# Altium schematic symbol library IC. Power supply.SchLib: 26 symbols
Pins are listed as number, name and electrical type; pins without a type are passive.

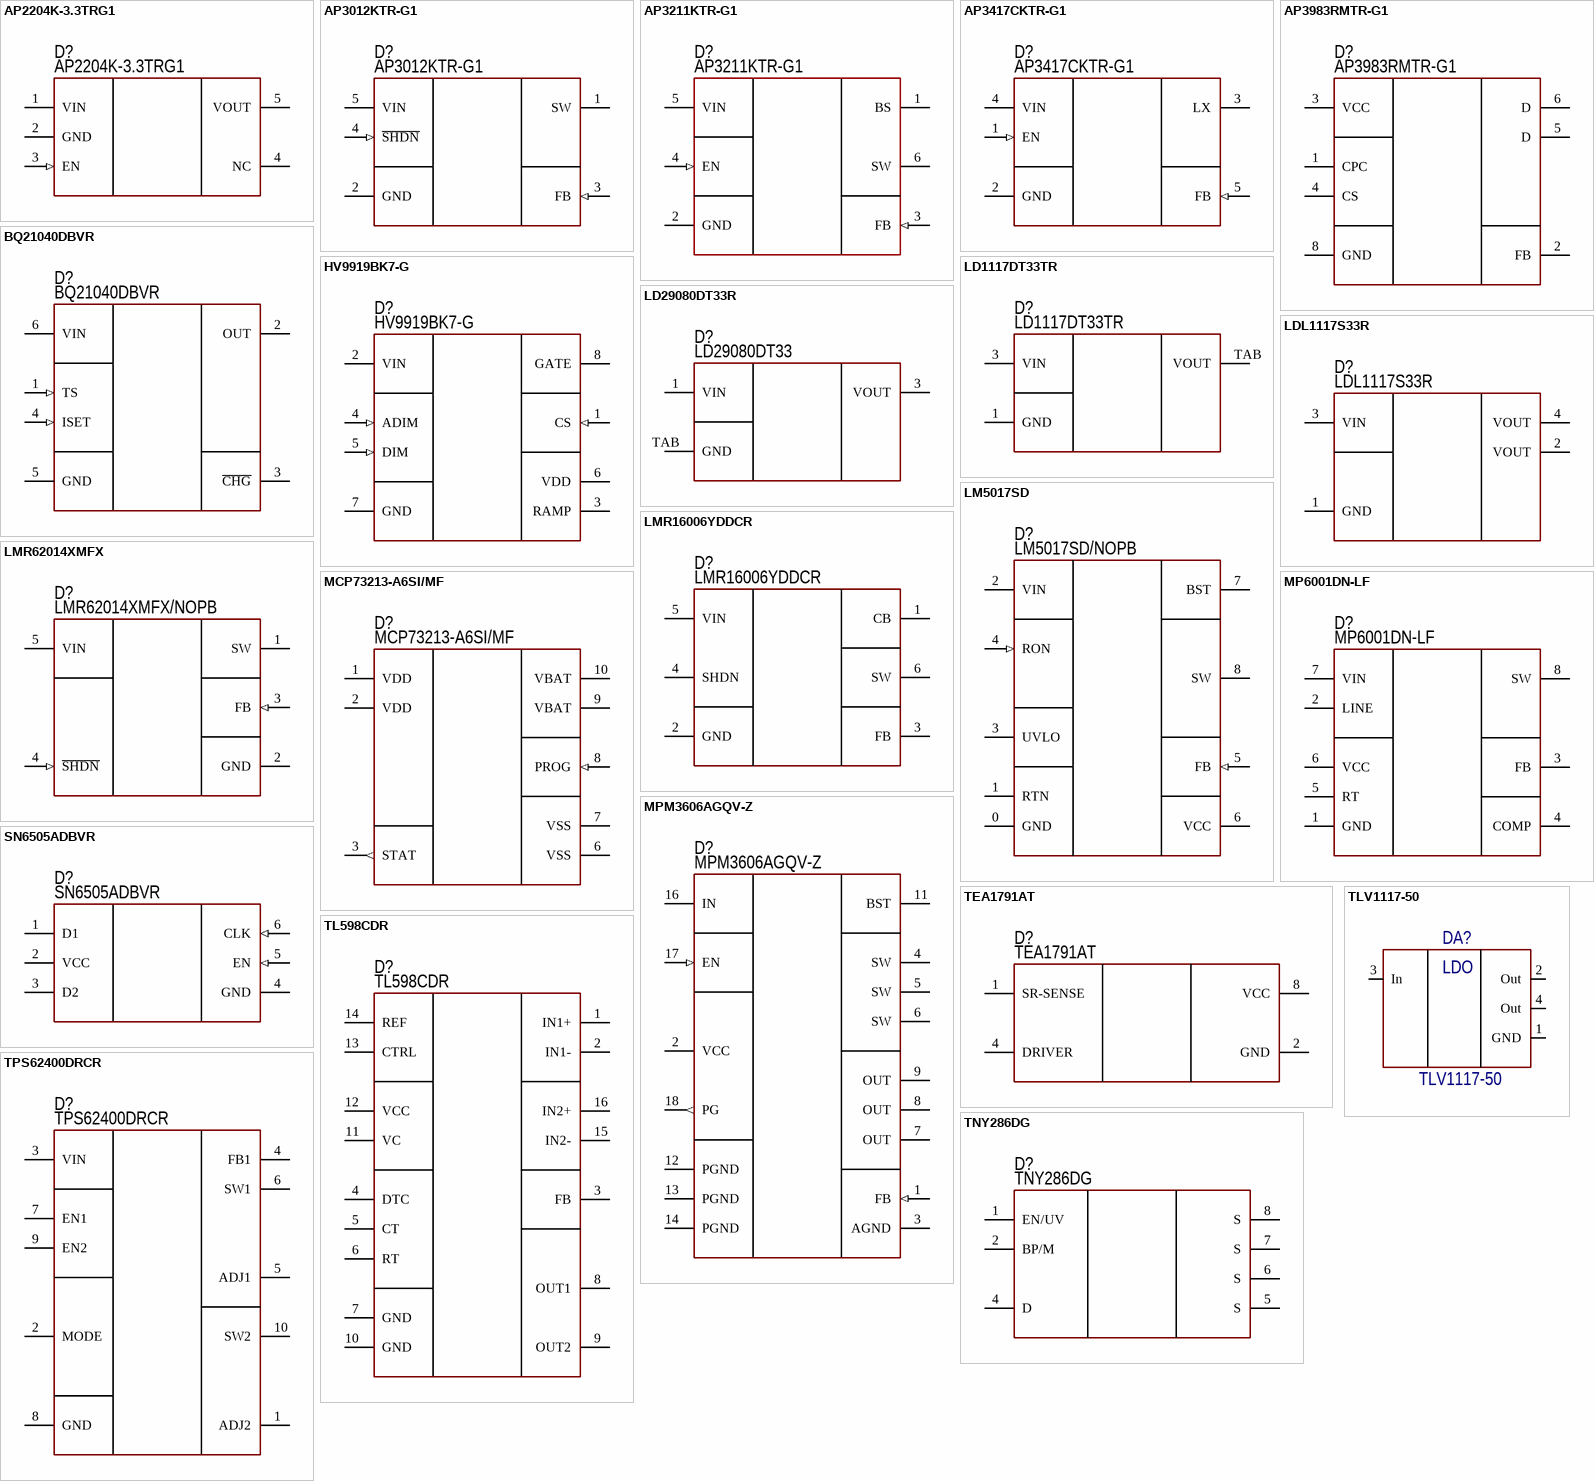
[diagram p0: symbols AP2204K-3.3TRG1 to TPS62400DRCR]

## AP2204K-3.3TRG1
designator D?  PartNumber: AP2204K-3.3TRG1
Linear voltage regulator; Manufacturer: Diodes Incorporated; ValueManufacturerPartNumber: Linear voltage regulator, input 4...24V, 0.5V, output 3.3V, 0.15A, -40...+85°C, SOT23-6; VoltageInput: input 4...24V; MaxDropout: 0.5V; CurrentOutput: 0.15A; VoltageOutput: output 3.3V; HelpURL: https://www.digikey.com/product-detail/en/diodes-incorporated/AP2204K-3.3TRG1/AP2204K-3.3TRG1DICT-ND/4505288; Package: SOT23-6; ComponentType: Linear voltage regulator; Temperature: -40...+85°C
footprint SOT23-5 (pitch 0.95 mm)
pins: 1 VIN, 2 GND, 3 EN (in), 4 NC, 5 VOUT

## AP3012KTR-G1
designator D?  PartNumber: AP3012KTR-G1
Boost converter; Manufacturer: Diodes Incorporated; ValueManufacturerPartNumber: DC/DC boost converter, input 2.6...16V, 1.5MHz, output 3...29V, 0.5A, -40...+85°C, SOT23-5; VoltageInput: input 2.6...16V; Frequency: 1.5MHz; CurrentOutput: 0.5A; VoltageOutput: output 3...29V; HelpURL: https://www.digikey.com/product-detail/en/diodes-incorporated/AP3012KTR-G1/AP3012KTR-G1DICT-ND/4505297; Package: SOT23-5; ComponentType: DC/DC boost converter; Temperature: -40...+85°C
footprint SOT23-5 (pitch 0.95 mm)
pins: 1 SW, 2 GND, 3 FB (in), 4 ~{SHDN} (in), 5 VIN

## AP3211KTR-G1
designator D?  PartNumber: AP3211KTR-G1
Buck converter; Manufacturer: Diodes Incorporated; ValueManufacturerPartNumber: DC/DC buck converter, input 4.5...18V, 1.4MHz, output 0.81...15V, 1.5A, -40...+85°C, SOT23-6; VoltageInput: input 4.5...18V; Frequency: 1.4MHz; CurrentOutput: 1.5A; VoltageOutput: output 0.81...15V; HelpURL: https://www.digikey.com/product-detail/en/diodes-incorporated/AP3211KTR-G1/AP3211KTR-G1DICT-ND/4505305; Package: SOT23-6; ComponentType: DC/DC buck converter; Temperature: -40...+85°C
footprint SOT23-6 (pitch 0.95 mm)
pins: 1 BS, 2 GND, 3 FB (in), 4 EN (in), 5 VIN, 6 SW

## AP3417CKTR-G1
designator D?  PartNumber: AP3417CKTR-G1
Buck converter; Manufacturer: Diodes Incorporated; ValueManufacturerPartNumber: DC/DC buck converter, input 2.5...5.5V, 1.5MHz, output 0.6...4.95V, 1A, -40...+85°C, SOT23-5; VoltageInput: input 2.5...5.5V; Frequency: 1.5MHz; CurrentOutput: 1A; VoltageOutput: output 0.6...4.95V; HelpURL: https://www.digikey.com/product-detail/en/diodes-incorporated/AP3417CKTR-G1/AP3417CKTR-G1DICT-ND/4505308; Package: SOT23-5; ComponentType: DC/DC buck converter; Temperature: -40...+85°C
footprint SOT23-6 (pitch 0.95 mm)
pins: 1 EN (in), 2 GND, 3 LX, 4 VIN, 5 FB (in)

## AP3983RMTR-G1
designator D?  PartNumber: AP3983RMTR-G1
AC/DC converter; Manufacturer: Diodes Incorporated; ValueManufacturerPartNumber: AC/DC flyback converter, 700V, 80kHz, 10W, supply 6.8...25V, -40...+85°C, 7-SOIC; MaxInternalVoltage: 700V; Frequency: 80kHz; PowerOutput: 10W; VoltageSupply: supply 6.8...25V; HelpURL: https://www.digikey.com/product-detail/en/diodes-incorporated/AP3983RMTR-G1/AP3983RMTR-G1DICT-ND/6181714; Package: 7-SOIC; ComponentType: AC/DC flyback converter; Temperature: -40...+85°C
footprint 7-SOIC (pitch 1.27 mm)
pins: 1 CPC, 2 FB, 3 VCC, 4 CS, 5 D, 6 D, 8 GND

## BQ21040DBVR
designator D?  PartNumber: BQ21040DBVR
Charger; Manufacturer: Texas Instruments; ValueManufacturerPartNumber: Charger li-ion battery, input 4.5...6.25V, output 4.2V, 0.8A, 0...+125°C, SOT23-6; VoltageInput: input 4.5...6.25V; CurrentOutput: 0.8A; VoltageOutput: output 4.2V; HelpURL: https://www.digikey.com/product-detail/en/texas-instruments/BQ21040DBVR/296-47315-1-ND/7688325; Package: SOT23-6; ComponentType: Charger li-ion battery; Temperature: 0...+125°C
footprint SOT23-6 (pitch 0.95 mm)
pins: 1 TS (in), 2 OUT, 3 ~{CHG}, 4 ISET (in), 5 GND, 6 VIN

## HV9919BK7-G
designator D?  PartNumber: HV9919BK7-G
PWM led controller; Manufacturer: Microchip Technology; ValueManufacturerPartNumber: PWM led controller, input 4.5...40V, 2MHz, External switch, Step-Down, -40...+125°C, 8-DFN; VoltageInput: input 4.5...40V; Frequency: 2MHz; TypeConverter: Step-Down; OutputType: External switch; HelpURL: https://www.digikey.com/product-detail/en/microchip-technology/HV9919BK7-G/HV9919BK7-GCT-ND/8538004; Package: 8-DFN; ComponentType: PWM led controller; Temperature: -40...+125°C
footprint 8-DFN (3x3, 0.65 mm) (3x3 mm, pitch 0.65 mm, power pad)
pins: 1 CS (in), 2 VIN, 3 RAMP, 4 ADIM (in), 5 DIM (in), 6 VDD, 7 GND, 8 GATE

## LD1117DT33TR
designator D?  PartNumber: LD1117DT33TR
Linear voltage regulator; Manufacturer: STMicroelectronics; ValueManufacturerPartNumber: Linear voltage regulator, input 4.75...10V, 1.2V, output 3.3V, 1.2A, -40...+85°C, DPAK(TO-252); VoltageInput: input 4.75...10V; MaxDropout: 1.2V; CurrentOutput: 1.2A; VoltageOutput: output 3.3V; HelpURL: https://www.chipdip.ru/product/ld1117dt33; Package: DPAK(TO-252); ComponentType: Linear voltage regulator; Temperature: -40...+85°C
footprint DPAK(LDO) (DPAK for LDO)
pins: 1 GND (power), 3 VIN (power), TAB VOUT (power)

## LD29080DT33R
designator D?  PartNumber: LD29080DT33
Linear voltage regulator; Manufacturer: STMicroelectronics; ValueManufacturerPartNumber: Linear voltage regulator, input 4.3...8.8V, 0.4V, output 3.3V, 0.8A, -40...+85°C, DPAK(TO-252); VoltageInput: input 4.3...8.8V; MaxDropout: 0.4V; CurrentOutput: 0.8A; VoltageOutput: output 3.3V; HelpURL: https://www.electronshik.ru/item/ST/LD29080DT33R; Package: DPAK(TO-252); ComponentType: Linear voltage regulator; Temperature: -40...+85°C
footprint DPAK(LDO) (DPAK for LDO)
pins: 1 VIN (power), 3 VOUT (power), TAB GND (power)

## LDL1117S33R
designator D?  PartNumber: LDL1117S33R
Linear voltage regulator; Manufacturer: STMicroelectronics; ValueManufacturerPartNumber: Linear voltage regulator, input 3.9...18V, 0.6V, output 3.3V, 1.2A, -40...+85°C, SOT223; VoltageInput: input 3.9...18V; MaxDropout: 0.6V; CurrentOutput: 1.2A; VoltageOutput: output 3.3V; HelpURL: https://www.digikey.com/product-detail/en/stmicroelectronics/LDL1117S33R/497-17239-1-ND/7102079; Package: SOT223; ComponentType: Linear voltage regulator; Temperature: -40...+85°C
footprint SOT223 (SOT223, 4-Leads, Body 6,50x7,00mm (avg), Pitch 2,30mm, IPC Medium Density)
pins: 1 GND (power), 2 VOUT (power), 3 VIN (power), 4 VOUT (power)

## LM5017SD
designator D?  PartNumber: LM5017SD/NOPB
Buck converter; Manufacturer: Texas Instruments; ValueManufacturerPartNumber: DC/DC buck converter, input 7.5...100V, 1MHz, output 1.225...90V, 0.6A, -40...+125°C, 8-WSON; VoltageInput: input 7.5...100V; Frequency: 1MHz; CurrentOutput: 0.6A; VoltageOutput: output 1.225...90V; HelpURL: https://www.digikey.com/product-detail/en/texas-instruments/LM5017SD-NOPB/LM5017SD-NOPBCT-ND/3137455; Package: 8-WSON; ComponentType: DC/DC buck converter; Temperature: -40...+125°C
footprint 8-WSON (4x4) (4x4 mm, pitch 0.8 mm, power pad)
pins: 0 GND, 1 RTN, 2 VIN, 3 UVLO, 4 RON (in), 5 FB (in), 6 VCC, 7 BST, 8 SW

## LMR16006YDDCR
designator D?  PartNumber: LMR16006YDDCR
Buck converter; Manufacturer: Texas Instruments; ValueManufacturerPartNumber: DC/DC buck converter, input 4...60V, 2.1MHz, output 0.765...55V, 0.6A, -40...+125°C, SOT23-6; VoltageInput: input 4...60V; Frequency: 2.1MHz; CurrentOutput: 0.6A; VoltageOutput: output 0.765...55V; HelpURL: https://www.digikey.com/product-detail/en/texas-instruments/LMR16006YDDCR/296-40294-1-ND/5178171; Package: SOT23-6; ComponentType: DC/DC buck converter; Temperature: -40...+125°C
footprint SOT23-6 (pitch 0.95 mm)
pins: 1 CB (power), 2 GND (power), 3 FB (power), 4 SHDN (power), 5 VIN (power), 6 SW (power)

## LMR62014XMFX
designator D?  PartNumber: LMR62014XMFX/NOPB
Boost converter; Manufacturer: Texas Instruments; ValueManufacturerPartNumber: DC/DC boost converter, input 2.7...14V, 1.5MHz, output 3...20V, 2A, -40...+125°C, SOT23-5; VoltageInput: input 2.7...14V; Frequency: 1.5MHz; CurrentOutput: 2A; VoltageOutput: output 3...20V; HelpURL: https://www.digikey.com/product-detail/en/diodes-incorporated/AP3012KTR-G1/AP3012KTR-G1DICT-ND/4505297; Package: SOT23-5; ComponentType: DC/DC boost converter; Temperature: -40...+125°C
footprint SOT23-5 (pitch 0.95 mm)
pins: 1 SW, 2 GND, 3 FB (in), 4 ~{SHDN} (in), 5 VIN

## MCP73213-A6SI/MF
designator D?  PartNumber: MCP73213-A6SI/MF
Charger; Manufacturer: Microchip Technology; ValueManufacturerPartNumber: Charger  2S li-ion battery, input 8.8...13V, output 8.4V, 1.1A, -40...+85°C, 10-DFN; VoltageInput: input 8.8...13V; CurrentOutput: 1.1A; VoltageOutput: output 8.4V; HelpURL: https://www.digikey.com/products/en?keywords=MCP73213-A6SI%2FMF; Package: 10-DFN; ComponentType: Charger  2S li-ion battery; Temperature: -40...+85°C
footprint 10-DFN (3x3 mm, pitch 0.5 mm, power pad)
pins: 1 VDD, 2 VDD, 3 STAT (out), 6 VSS, 7 VSS, 8 PROG (in), 9 VBAT, 10 VBAT

## MP6001DN-LF
designator D?  PartNumber: MP6001DN-LF
Boost converter; Manufacturer: Monolithic; ValueManufacturerPartNumber: DC/DC boost converter, input 10...100V, 500kHz, output 12...150V, 2A, -40...+85°C, 8-SOIC; VoltageInput: input 10...100V; Frequency: 500kHz; CurrentOutput: 2A; VoltageOutput: output 12...150V; HelpURL: https://www.digikey.com/product-detail/en/monolithic-power-systems-inc/MP6001DN-LF-Z/1589-1700-1-ND/9433466; Package: 8-SOIC; ComponentType: DC/DC boost converter; Temperature: -40...+85°C
footprint 8-SOIC-PAD (pitch 1.27 mm, power pad)
pins: 1 GND (power), 2 LINE (power), 3 FB (power), 4 COMP (power), 5 RT (power), 6 VCC (power), 7 VIN (power), 8 SW (power)

## MPM3606AGQV-Z
designator D?  PartNumber: MPM3606AGQV-Z
Buck converter; Manufacturer: Monolithic; ValueManufacturerPartNumber: DC/DC buck converter, input 4.5...21V, 20MHz, output 4.5...21V, 0.6A, -40...+125°C, 20-QFN; VoltageInput: input 4.5...21V; Frequency: 20MHz; CurrentOutput: 0.6A; VoltageOutput: output 4.5...21V; HelpURL: https://www.digikey.com/product-detail/en/monolithic-power-systems-inc/MPM3606AGQV-Z/1589-1760-1-ND/9433526; Package: 20-QFN; ComponentType: DC/DC buck converter; Temperature: -40...+125°C
footprint IC: MPM3606A
pins: 1 FB (in), 2 VCC, 3 AGND, 4 SW, 5 SW, 6 SW, 7 OUT, 8 OUT, 9 OUT, 11 BST, 12 PGND, 13 PGND, 14 PGND, 16 IN, 17 EN (in), 18 PG (out)

## SN6505ADBVR
designator D?  PartNumber: SN6505ADBVR
Push-pull converter; Manufacturer: Texas Instruments; ValueManufacturerPartNumber: DC/DC push-pull converter, input 2.25...5.5V, 160kHz, External transformer, 1.7A, -55...+125°C, SOT23-6; VoltageInput: input 2.25...5.5V; Frequency: 160kHz; CurrentOutput: 1.7A; VoltageOutput: External transformer; HelpURL: https://www.digikey.com/product-detail/en/texas-instruments/SN6505ADBVR/296-48949-1-ND/8635012; Package: SOT23-6; ComponentType: DC/DC push-pull converter; Temperature: -55...+125°C
footprint SOT23-6 (pitch 0.95 mm)
pins: 1 D1 (power), 2 VCC (power), 3 D2 (power), 4 GND (power), 5 EN (in), 6 CLK (in)

## TEA1791AT
designator D?  PartNumber: TEA1791AT
Synchronous rectification; Manufacturer: NXP; ValueManufacturerPartNumber: Synchronous rectification, input 8.5...38V, 1MHz, ExternalSwitch, Controller, -40...+150°C, 8-SOIC; VoltageInput: input 8.5...38V; Frequency: 1MHz; TypeConverter: Controller; OutputType: ExternalSwitch; HelpURL: https://www.digikey.com/product-detail/en/nxp-usa-inc/TEA1791AT-N1118/568-5964-1-ND/2531251; Package: 8-SOIC; ComponentType: Synchronous rectification; Temperature: -40...+150°C
footprint 8-DFN (3x3, 0.65 mm) (3x3 mm, pitch 0.65 mm, power pad)
pins: 1 SR-SENSE, 2 GND, 4 DRIVER, 8 VCC

## TL598CDR
designator D?  PartNumber: TL598CDR
PWM controller; Manufacturer: Texas Instruments; ValueManufacturerPartNumber: PWM controller, supply 7...40V, 100kHz, External switch, 0...+70°C, 16-SOIC; VoltageInput: supply 7...40V; Frequency: 100kHz; OutputType: External switch; HelpURL: https://www.digikey.com/product-detail/en/texas-instruments/TL598CDR/296-36983-1-ND/4428929; Package: 16-SOIC; ComponentType: PWM controller; Temperature: 0...+70°C
footprint 16-SO (pitch 1.27 mm)
pins: 1 IN1+, 2 IN1-, 3 FB, 4 DTC, 5 CT, 6 RT, 7 GND, 8 OUT1, 9 OUT2, 10 GND, 11 VC, 12 VCC, 13 CTRL, 14 REF, 15 IN2-, 16 IN2+

## TLV1117-50
designator DA?
Микросхема; Manufacturer: Texas Instruments; Footprint: SOT-223; HelpURL: http://www.ti.com/lit/ds/symlink/tlv1117.pdf; Publisher: TEN; Published: 01.2018; Part_Number: TLV1117-50
footprint SOT223 (SOT223, 4-Leads, Body 6,50x7,00mm (avg), Pitch 2,30mm, IPC Medium Density)
pins: 1 GND, 2 Out, 3 In, 4 Out
text: LDO

## TNY286DG
designator D?  PartNumber: TNY286DG
AC/DC converter; Manufacturer: Power Integrations; ValueManufacturerPartNumber: AC/DC flyback converter, 725V, 124...140kHz, 13W, supply 6.8...25V, -40...+150°C, 8-SOIC; MaxInternalVoltage: 725V; Frequency: 124...140kHz; PowerOutput: 13W; VoltageSupply: supply 6.8...25V; HelpURL: https://www.digikey.com/product-detail/en/power-integrations/TNY286DG/596-1581-ND/4171962; Package: 8-SOIC; ComponentType: AC/DC flyback converter; Temperature: -40...+150°C
footprint IC: TNY286DG
pins: 1 EN/UV, 2 BP/M, 4 D, 5 S, 6 S, 7 S, 8 S

## TPS62400DRCR
designator D?  PartNumber: TPS62400DRCR
Buck converter; Manufacturer: Texas Instruments; ValueManufacturerPartNumber: DC/DC buck converter, input 2.5...6V, 2.25MHz, output 0.6...6V, 0.4/0.6A, -40...+85°C, 10-VSON; VoltageInput: input 2.5...6V; Frequency: 2.25MHz; CurrentOutput: 0.4/0.6A; VoltageOutput: output 0.6...6V; HelpURL: https://www.digikey.com/product-detail/en/texas-instruments/TPS62400DRCR/296-25491-1-ND/2192984; Package: 10-VSON; ComponentType: DC/DC buck converter; Temperature: -40...+85°C
footprint 10-DFN (3x3 mm, pitch 0.5 mm, power pad)
pins: 1 ADJ2, 2 MODE, 3 VIN, 4 FB1, 5 ADJ1, 6 SW1, 7 EN1, 8 GND, 9 EN2, 10 SW2

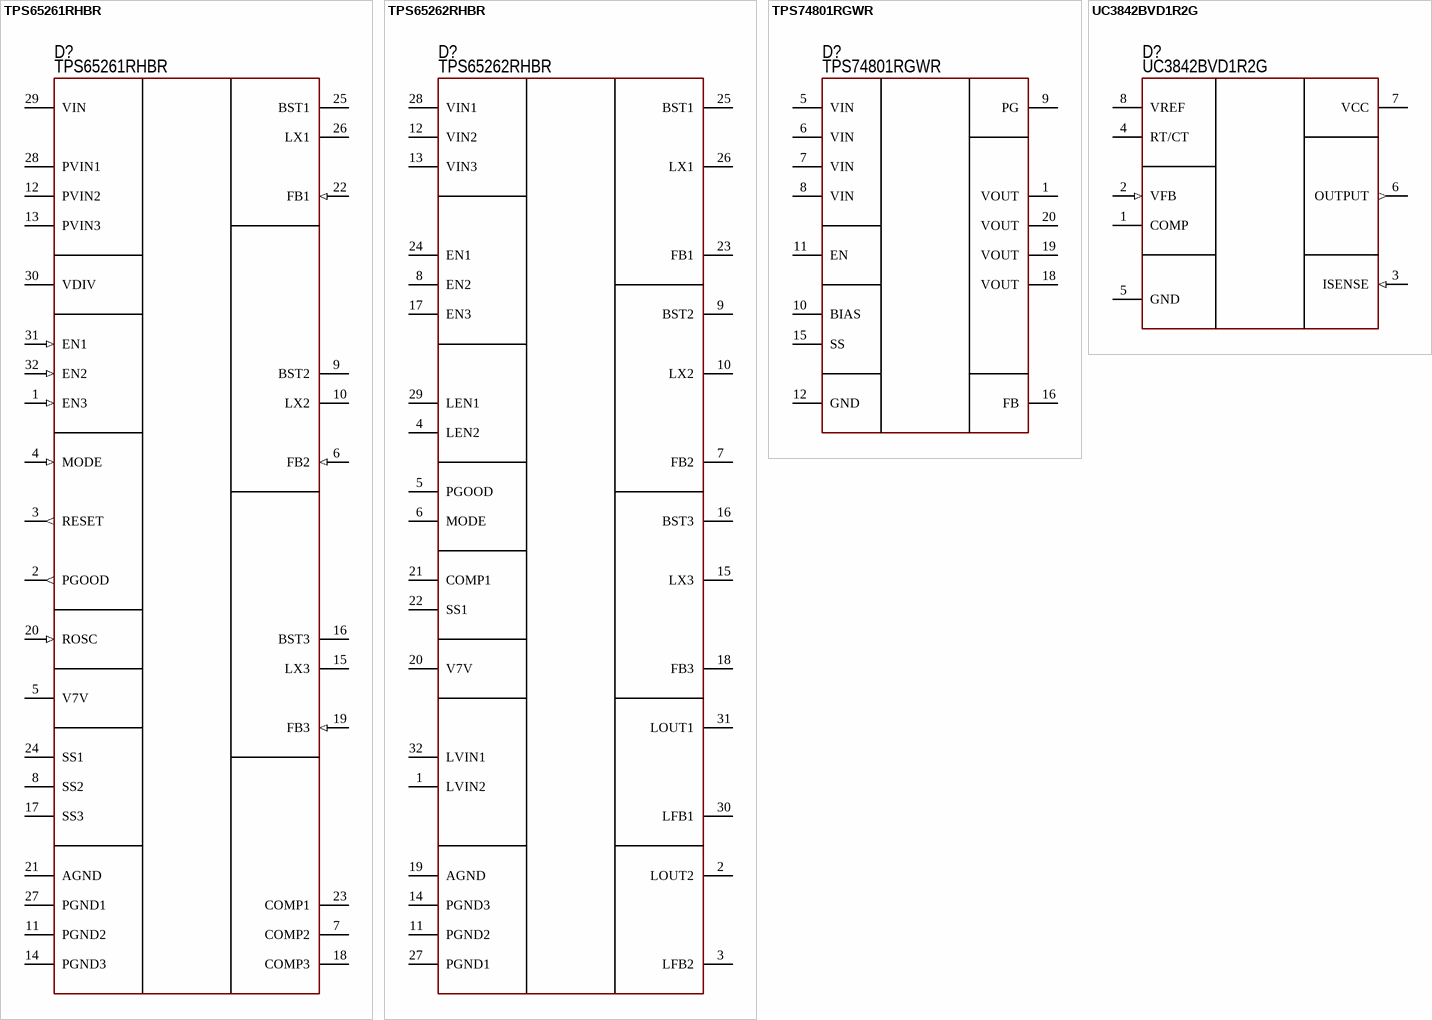
[diagram p1: symbols TPS65261RHBR to UC3842BVD1R2G]

## TPS65261RHBR
designator D?  PartNumber: TPS65261RHBR
Buck converter; Manufacturer: Texas Instruments; ValueManufacturerPartNumber: DC/DC buck converter, input 4.5...18V, 2MHz, output 0.6...18V, 3/2A, -40...+85°C, 32-VQFN; VoltageInput: input 4.5...18V; Frequency: 2MHz; CurrentOutput: 3/2A; VoltageOutput: output 0.6...18V; HelpURL: https://www.digikey.com/product-detail/en/texas-instruments/TPS65261RHBR/296-39591-1-ND/5149051; Package: 32-VQFN; ComponentType: DC/DC buck converter; Temperature: -40...+85°C
footprint 32-QFN (5x5 mm, pitch 0.5 mm, power pad)
pins: 1 EN3 (in), 2 PGOOD (out), 3 RESET (out), 4 MODE (in), 5 V7V, 6 FB2 (in), 7 COMP2, 8 SS2, 9 BST2, 10 LX2, 11 PGND2, 12 PVIN2, 13 PVIN3, 14 PGND3, 15 LX3, 16 BST3, 17 SS3, 18 COMP3, 19 FB3 (in), 20 ROSC (in), 21 AGND, 22 FB1 (in), 23 COMP1, 24 SS1, 25 BST1, 26 LX1, 27 PGND1, 28 PVIN1, 29 VIN, 30 VDIV, 31 EN1 (in), 32 EN2 (in)

## TPS65262RHBR
designator D?  PartNumber: TPS65262RHBR
Buck converter; Manufacturer: Texas Instruments; ValueManufacturerPartNumber: DC/DC buck converter and LDO, input 4.5...18V, 600kHz, output 0.6...18V, 3/1/1A, -40...+85°C, 32-VQFN; VoltageInput: input 4.5...18V; Frequency: 600kHz; CurrentOutput: 3/1/1A; VoltageOutput: output 0.6...18V; HelpURL: https://www.digikey.com/product-detail/en/texas-instruments/TPS65262RHBR/296-41763-1-ND/5224542; Package: 32-VQFN; ComponentType: DC/DC buck converter and LDO; Temperature: -40...+85°C
footprint 32-QFN (5x5 mm, pitch 0.5 mm, power pad)
pins: 1 LVIN2, 2 LOUT2, 3 LFB2, 4 LEN2, 5 PGOOD, 6 MODE, 7 FB2, 8 EN2, 9 BST2, 10 LX2, 11 PGND2, 12 VIN2, 13 VIN3, 14 PGND3, 15 LX3, 16 BST3, 17 EN3, 18 FB3, 19 AGND, 20 V7V, 21 COMP1, 22 SS1, 23 FB1, 24 EN1, 25 BST1, 26 LX1, 27 PGND1, 28 VIN1, 29 LEN1, 30 LFB1, 31 LOUT1, 32 LVIN1

## TPS74801RGWR
designator D?  PartNumber: TPS74801RGWR
Linear voltage regulator; Manufacturer: Texas Instruments; ValueManufacturerPartNumber: Linear voltage regulator, input 5.5V, 0.16V, output 0.8...3.6V, 1.5A, -40...+125°C, 20-VQFN; VoltageInput: input 5.5V; MaxDropout: 0.16V; CurrentOutput: 1.5A; VoltageOutput: output 0.8...3.6V; HelpURL: https://www.digikey.com/product-detail/en/texas-instruments/TPS74801RGWR/296-21977-1-ND/1632670; Package: 20-VQFN; ComponentType: Linear voltage regulator; Temperature: -40...+125°C
footprint 20-QFN (5X5) (5x5 mm, pitch 0.65 mm, power pad)
pins: 1 VOUT, 5 VIN, 6 VIN, 7 VIN, 8 VIN, 9 PG, 10 BIAS, 11 EN, 12 GND, 15 SS, 16 FB, 18 VOUT, 19 VOUT, 20 VOUT

## UC3842BVD1R2G
designator D?  PartNumber: UC3842BVD1R2G
PWM controller; Manufacturer: ON Semiconductor; ValueManufacturerPartNumber: PWM controller, supply 10...30V, 500kHz, External switch, -40...+105°C, 8-SOIC; VoltageInput: supply 10...30V; Frequency: 500kHz; OutputType: External switch; HelpURL: https://www.digikey.com/product-detail/en/on-semiconductor/UC3842BVD1R2G/UC3842BVD1R2GOSCT-ND/5802572; Package: 8-SOIC; ComponentType: PWM controller; Temperature: -40...+105°C
footprint 8-SOIC (pitch 1.27 mm)
pins: 1 COMP, 2 VFB (in), 3 ISENSE (in), 4 RT/CT, 5 GND, 6 OUTPUT (out), 7 VCC, 8 VREF